# EAGLE library part LTC3350 (library LTC3350fc High Current Supercapacitor Backup Controller and  System Monitor)
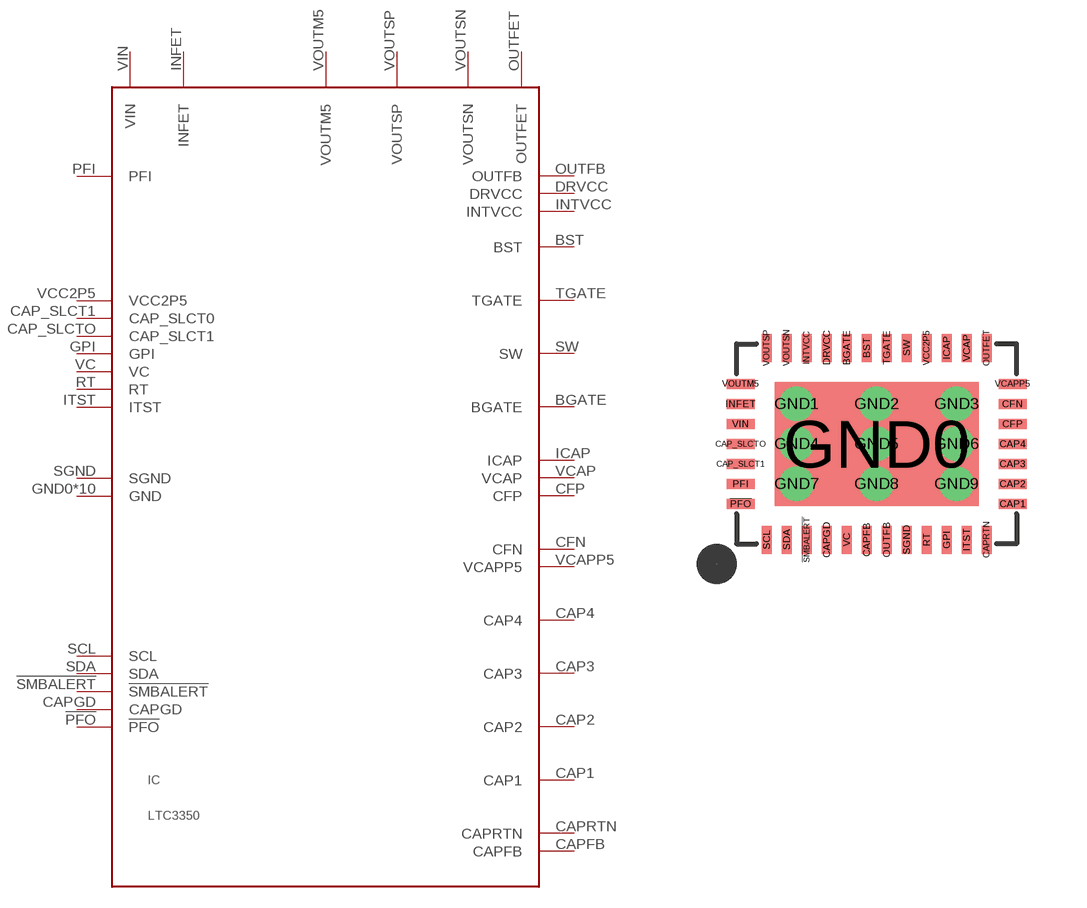
[diagram p0: symbol with the pads of QFN38; footprint QFN38]

Designator prefix IC

## LTC3350  [QFN38]
!PFO!  !PFO!  out
!SMBALERT!  !SMBALERT!  out
BGATE  BGATE
BST  BST
CAP1  CAP1
CAP2  CAP2
CAP3  CAP3
CAP4  CAP4
CAP_SLCT1  CAP_SLCT0
CAP_SLCTO  CAP_SLCT1
CAPFB  CAPFB
CAPGD  CAPGD  out
CAPRTN  CAPRTN
CFN  CFN
CFP  CFP
DRVCC  DRVCC
GND0  GND
GND1  GND
GND2  GND
GND3  GND
GND4  GND
GND5  GND
GND6  GND
GND7  GND
GND8  GND
GND9  GND
GPI  GPI
ICAP  ICAP
INFET  INFET
INTVCC  INTVCC
ITST  ITST
OUTFB  OUTFB
OUTFET  OUTFET
PFI  PFI
RT  RT
SCL  SCL
SDA  SDA
SGND  SGND
SW  SW
TGATE  TGATE
VC  VC
VCAP  VCAP
VCAPP5  VCAPP5
VCC2P5  VCC2P5
VIN  VIN  pwr
VOUTM5  VOUTM5
VOUTSN  VOUTSN
VOUTSP  VOUTSP

## Footprint QFN38 (pad centres in mm)
smd 0.7 x 0.25: !PFO! -3.4,-1.5; CAP1 3.4,-1.5; CAP2 3.4,-1; CAP3 3.4,-0.5; CAP4 3.4,0; CAP_SLCT1 -3.4,-0.5; CAP_SLCTO -3.4,0; CFN 3.4,1; CFP 3.4,0.5; INFET -3.4,1; PFI -3.4,-1; VCAPP5 3.4,1.5; VIN -3.4,0.5; VOUTM5 -3.4,1.5
smd 0.25 x 0.7: !SMBALERT! -1.75,-2.4; BGATE -0.75,2.4; BST -0.25,2.4; CAPFB -0.25,-2.4; CAPGD -1.25,-2.4; CAPRTN 2.75,-2.4; DRVCC -1.25,2.4; GPI 1.75,-2.4; ICAP 1.75,2.4; INTVCC -1.75,2.4; ITST 2.25,-2.4; OUTFB 0.25,-2.4; OUTFET 2.75,2.4; RT 1.25,-2.4; SCL -2.75,-2.4; SDA -2.25,-2.4; SGND 0.75,-2.4; SW 0.75,2.4; TGATE 0.25,2.4; VC -0.75,-2.4; VCAP 2.25,2.4; VCC2P5 1.25,2.4; VOUTSN -2.25,2.4; VOUTSP -2.75,2.4
smd 5.1 x 3.1: GND0 0,0
drill 0.35: GND1 -2,1; GND2 0,1; GND3 2,1; GND4 -2,0; GND5 0,0; GND6 2,0; GND7 -2,-1; GND8 0,-1; GND9 2,-1